# Altium footprint library L-SPE-MSS1260.PcbLib: 1 footprints
Each footprint in its own frame and in the unit in brackets; x right, y up, seen from the top. Pads: shape width x height; smd on the part's side, far side on the other; paste and mask are expansions set on the pad; w line width, h text height; cw(c..) or ccw(c..) is an arc to the next point about the centre after c.
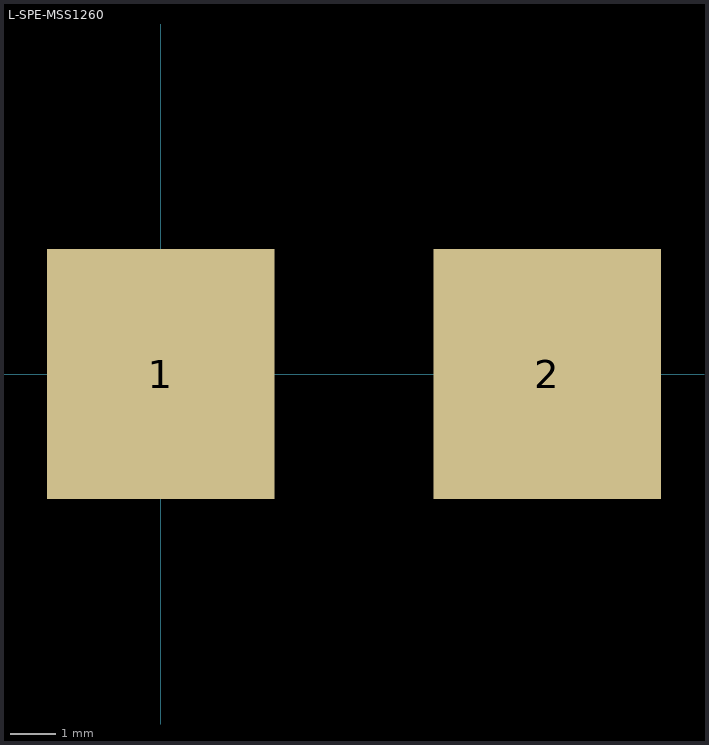
[diagram p0: the footprint, top view; thin cyan lines are the x and y axes]

## L-SPE-MSS1260 [mm]
pads (2):
  rect 5x5.5 smd: 1(0,0) 2(8.5,0)
3D body: height 6.2, standoff -0.04, extent -1.857,-6.074 10.443,6.226